# Altium footprint library adafruit_power_1000c.PCBLIB: 2 footprints
Each footprint in its own frame and in the unit in brackets; x right, y up, seen from the top. Pads: shape width x height; smd on the part's side, far side on the other; paste and mask are expansions set on the pad; w line width, h text height; cw(c..) or ccw(c..) is an arc to the next point about the centre after c.
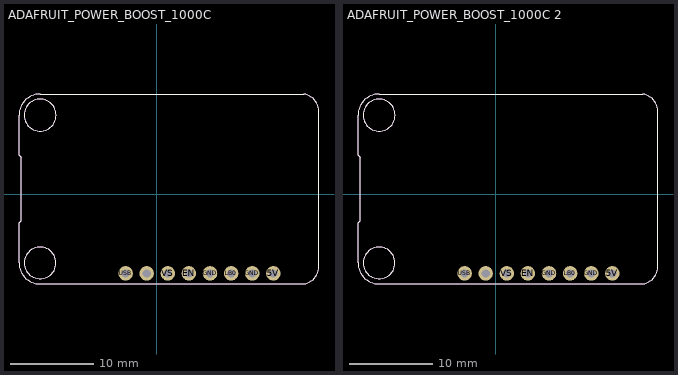
[diagram p0: the footprints below, top view; thin cyan lines are the x and y axes]

## ADAFRUIT_POWER_BOOST_1000C [mm]
pads (8):
  round 1.75 / inner round 1.524 / far side round 1.75 hole 1: 5V(14.034,-9.525) EN(3.873,-9.525) GND(6.413,-9.525) GND(11.493,-9.525) LB0(8.954,-9.525) USB(-3.746,-9.525) VBAT(-1.206,-9.525) VS(1.333,-9.525)
Top Overlay:
  circle w0.127: c-14.034,9.525 r1.922
  circle w0.127: c-14.034,-8.255 r1.909
  lines w0.127: -16.573,-8.255 ccw(c-14.034,-8.255) -14.034,-10.795 17.716,-10.795 ccw(c17.335,-8.636) 19.495,-8.255 19.494,9.525 ccw(c17.335,9.906) 17.717,12.065 -14.034,12.065 ccw(c-14.034,9.525) -16.573,9.525 -16.573,4.699 -16.319,4.445 -16.319,-3.175 -16.573,-3.429 -16.573,-8.255
Dimension:
  circle w0.127: c-14.034,-8.255 r1.909
  circle w0.127: c-14.034,9.525 r1.922
  lines w0.127: -16.573,-8.255 ccw(c-14.034,-8.255) -14.034,-10.795 17.716,-10.795 ccw(c17.335,-8.636) 19.495,-8.255 19.494,9.525 ccw(c17.335,9.906) 17.717,12.065 -14.034,12.065 ccw(c-14.034,9.525) -16.573,9.525 -16.573,4.699 -16.319,4.445 -16.319,-3.175 -16.573,-3.429 -16.573,-8.255
3D body "User Library-SuperBoost1000C.stp": height 10.96, standoff 4.57, extent -17.081,-10.795 19.548,12.065
3D body "User Library-61300811121_Download_STP_61300811121_rev1(8 pin).stp": height 7.55, standoff -3.99, extent -4.978,-10.744 15.342,-8.204

## ADAFRUIT_POWER_BOOST_1000C 2 [mm] "No Header"
pads (8):
  round 1.75 / inner round 1.524 / far side round 1.75 hole 1: 5V(14.034,-9.525) EN(3.873,-9.525) GND(6.413,-9.525) GND(11.493,-9.525) LB0(8.954,-9.525) USB(-3.746,-9.525) VBAT(-1.206,-9.525) VS(1.333,-9.525)
Top Overlay:
  circle w0.127: c-14.034,9.525 r1.922
  circle w0.127: c-14.034,-8.255 r1.909
  lines w0.127: -16.573,-8.255 ccw(c-14.034,-8.255) -14.034,-10.795 17.716,-10.795 ccw(c17.335,-8.636) 19.495,-8.255 19.494,9.525 ccw(c17.335,9.906) 17.717,12.065 -14.034,12.065 ccw(c-14.034,9.525) -16.573,9.525 -16.573,4.699 -16.319,4.445 -16.319,-3.175 -16.573,-3.429 -16.573,-8.255
Dimension:
  circle w0.127: c-14.034,-8.255 r1.909
  circle w0.127: c-14.034,9.525 r1.922
  lines w0.127: -16.573,-8.255 ccw(c-14.034,-8.255) -14.034,-10.795 17.716,-10.795 ccw(c17.335,-8.636) 19.495,-8.255 19.494,9.525 ccw(c17.335,9.906) 17.717,12.065 -14.034,12.065 ccw(c-14.034,9.525) -16.573,9.525 -16.573,4.699 -16.319,4.445 -16.319,-3.175 -16.573,-3.429 -16.573,-8.255
3D body "User Library-SuperBoost1000C.stp": height 6.4, standoff 0.01, extent -17.081,-10.795 19.548,12.065